# EAGLE library part PRO-MINI-2 (library Arduino-clone)
Arduino Pro Mini Layout 2 Sparkfun.com
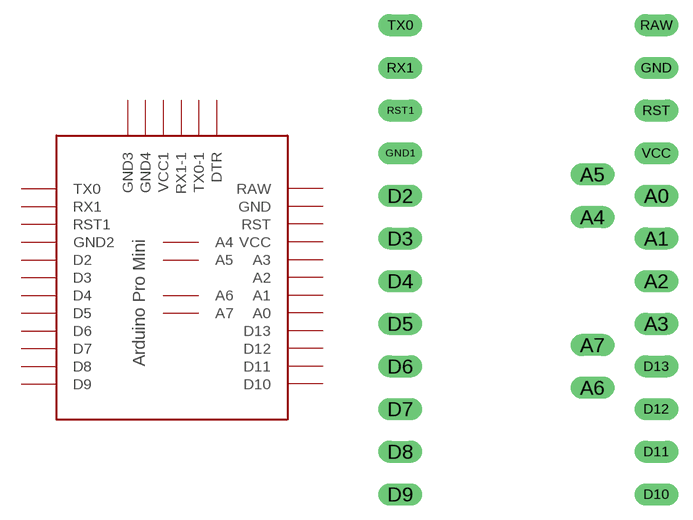
[diagram p2: symbol with the pads of PRO-MINI-2; footprint PRO-MINI-2]

Designator prefix -

## PRO-MINI-2  [PRO-MINI-2]
A0  A0
A1  A1
A2  A2
A3  A3
A4  A4
A5  A5
A6  A6
A7  A7
D2  D2
D3  D3
D4  D4
D5  D5
D6  D6
D7  D7
D8  D8
D9  D9
D10  D10
D11  D11
D12  D12
D13  D13
GND  GND
GND1  GND2
RAW  RAW
RST  RST
RST1  RST1
RX1  RX1
TX0  TX0
VCC  VCC

## Footprint PRO-MINI-2 (pad centres in mm)
drill 0.8 long: A0 6.35,2.54; A1 6.35,0; A2 6.35,-2.54; A3 6.35,-5.08; A4 2.54,1.27; A5 2.54,3.81; A6 2.54,-8.89; A7 2.54,-6.35; D2 -8.89,2.54; D3 -8.89,0; D4 -8.89,-2.54; D5 -8.89,-5.08; D6 -8.89,-7.62; D7 -8.89,-10.16; D8 -8.89,-12.7; D9 -8.89,-15.24; D10 6.35,-15.24; D11 6.35,-12.7; D12 6.35,-10.16; D13 6.35,-7.62; GND 6.35,10.16; GND1 -8.89,5.08; RAW 6.35,12.7; RST 6.35,7.62; RST1 -8.89,7.62; RX1 -8.89,10.16; TX0 -8.89,12.7; VCC 6.35,5.08